# Altium footprint library PcbLib2.PcbLib: 22 footprints (part 1 of 2)
Each footprint in its own frame and in the unit in brackets; x right, y up, seen from the top. Pads: shape width x height; smd on the part's side, far side on the other; paste and mask are expansions set on the pad; w line width, h text height; cw(c..) or ccw(c..) is an arc to the next point about the centre after c.
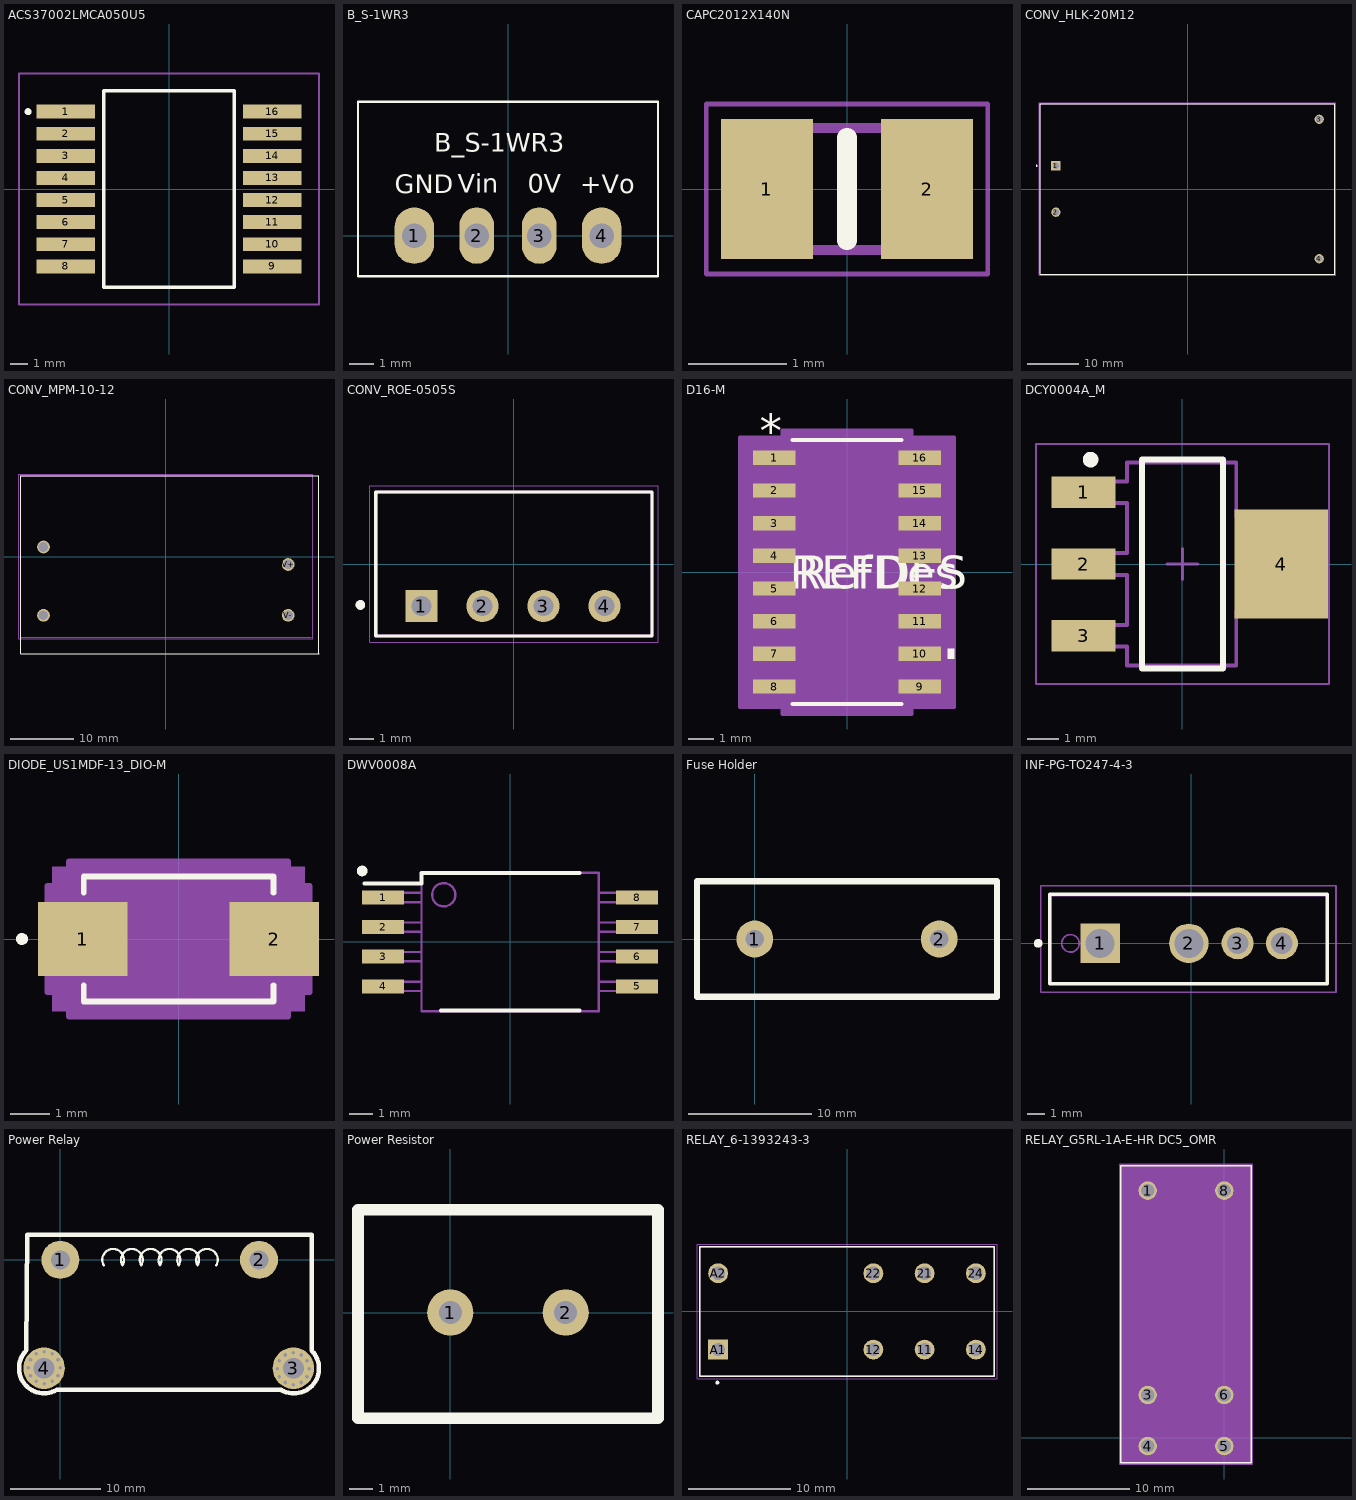
[diagram p0: the footprints below, top view; thin cyan lines are the x and y axes]

## ACS37002LMCA050U5 [mm]
pads (16):
  rect 3.36x0.8 smd: 1(-5.943,4.445) 2(-5.943,3.175) 3(-5.943,1.905) 4(-5.943,0.635) 5(-5.943,-0.635) 6(-5.943,-1.905) 7(-5.943,-3.175) 8(-5.943,-4.445) 9(5.943,-4.445) 10(5.943,-3.175) 11(5.943,-1.905) 12(5.943,-0.635) 13(5.943,0.635) 14(5.943,1.905) 15(5.943,3.175) 16(5.943,4.445)
Top Overlay:
  lines w0.2: -8.1,4.345 ccw(c-8.1,4.445) -8.1,4.545 ccw(c-8.1,4.445) -8.1,4.345 ; -3.76,-5.645 -3.76,5.645 3.76,5.645 3.76,-5.645 -3.76,-5.645
Mechanical 13:
  lines w0.1: -3.76,-5.645 -3.76,5.645 3.76,5.645 3.76,-5.645 -3.76,-5.645
Mechanical 15:
  lines w0.1: -8.623,-6.645 -8.623,6.645 8.623,6.645 8.623,-6.645 -8.623,-6.645
3D body "ACS37003KMCATR-050B5.stp": height 3.28, standoff 0, extent -6.5,-5.645 6.5,5.645

## B_S-1WR3 [mm]
pads (4):
  oval 1.6x2.3 hole 1: 1(-3.81,0) 4(3.81,0)
  oval 1.4x2.3 hole 1: 2(-1.27,0) 3(1.27,0)
Top Overlay:
  lines w0.1: -6.1,-1.662 -6.1,5.45 6.1,5.45 6.1,-1.662 -6.1,-1.662
  text "0V" at 0.808,1.734 h0.76
  text "+Vo" at 2.93,1.716 h0.76
  text "Vin" at -2.034,1.731 h0.76
  text "B_S-1WR3" at -3.006,3.418 h0.76
  text "GND" at -4.607,1.724 h0.76
Top Designator:
  text ".Designator" at -7.618,1.386 h1.52
3D body "B-S-1WR3.stp": height 10.2, standoff -4.06, extent -5.814,-0.885 5.786,5.115

## CAPC2012X140N [mm]
pads (2):
  rect 0.94x1.43 smd: 1(-0.82,0) 2(0.82,0)
Top Overlay:
  lines w0.2: 0,-0.525 0,0.525
Top Designator:
  text ".Designator" at -7.618,-0.508 h1.52
Mechanical 13:
  lines w0.1: -1,-0.625 -1,0.625 1,0.625 1,-0.625 -1,-0.625
Mechanical 15:
  lines w0.05: -1.44,-0.87 -1.44,0.87 1.44,0.87 1.44,-0.87 -1.44,-0.87
3D body "CL21A475KBQNNNE.stp": height 1.4, standoff 0, extent -1,-0.625 1,0.625

## CONV_HLK-20M12 [mm]
height 22.5
pads (4):
  rect 1.8x1.8 / inner round 1.8 / far side rect 1.8x1.8 hole 1.2: 1(-25.5,4.5)
  round 1.8 hole 1.2: 2(-25.5,-4.5) 3(25.5,13.5) 4(25.5,-13.5)
Top Overlay:
  circle w0.2: c-29.25,4.5 r0.1
  lines w0.127: -28.5,-16.5 28.5,-16.5 28.5,16.5 -28.5,16.5 -28.5,-16.5
Top Designator:
  text ".Designator" at -7.955,-0.508 h1.52
Mechanical 13:
  circle w0.2: c-29.25,4.5 r0.1
  lines w0.127: -28.5,-16.5 28.5,-16.5 28.5,16.5 -28.5,16.5 -28.5,-16.5
Mechanical 15:
  lines w0.05: -28.75,-16.75 28.75,-16.75 28.75,16.75 -28.75,16.75 -28.75,-16.75
3D body "step_temp.STEP": height 22.5, standoff -5, extent -28.5,-16.5 28.5,16.5

## CONV_MPM-10-12 [mm]
pads (4):
  round 2 hole 1.5: AC/L(-19.25,-9.25) AC/N(-19.25,1.5) V+(19.25,-1.25) V-(19.25,-9.25)
Top Overlay:
  lines w0.127: 24.05,-15.3 24.05,12.7 -22.85,12.7 -22.85,-15.3 24.1,-15.3
Top Designator:
  text ".Designator" at -7.098,-1.702 h1.52
Mechanical 13:
  lines w0.127: 22.85,-12.7 -22.85,-12.7 -22.85,12.7 22.85,12.7 ; 24.05,-12.7 24.05,12.7
Mechanical 15:
  lines w0.05: -23.1,-12.95 23.1,-12.95 23.1,12.95 -23.1,12.95 -23.1,-12.95
3D body "IRM-10 v3.step": height 21.5, standoff -3.5, extent -22.85,-12.827 22.85,12.573

## CONV_ROE-0505S [mm]
pads (4):
  rect 1.338x1.338 hole 0.83: 1(-3.85,-1.75)
  round 1.338 hole 0.83: 2(-1.31,-1.75) 3(1.23,-1.75) 4(3.77,-1.75)
Top Overlay:
  circle w0.2: c-6.39,-1.705 r0.1
  lines w0.127: -5.75,-3 -5.75,3 5.75,3 5.75,-3 -5.75,-3
Top Designator:
  text ".Designator" at -7.9,-0.508 h1.52
Mechanical 13:
  circle w0.2: c-6.39,-1.705 r0.1
  lines w0.127: -5.75,-3 -5.75,3 5.75,3 5.75,-3 -5.75,-3
Mechanical 15:
  lines w0.05: -6,-3.25 -6,3.25 6,3.25 6,-3.25 -6,-3.25
3D body "ROE-0505S--3DModel-STEP-1.STEP": height 9.5, standoff -4.6, extent -5.75,-3 5.75,3

## D16-M [mil]
pads (16):
  rect 65.5x22 smd paste+0 mask+0: 1(-111.25,175) 2(-111.25,125) 3(-111.25,75) 4(-111.25,25) 5(-111.25,-25) 6(-111.25,-75) 7(-111.25,-125) 8(-111.25,-175) 9(111.25,-175) 10(111.25,-125) 11(111.25,-75) 12(111.25,-25) 13(111.25,25) 14(111.25,75) 15(111.25,125) 16(111.25,175)
Top Overlay:
  region: 154,-117.5 164,-117.5 164,-132.5 154,-132.5
  lines w6: -83.5,-202 83.5,-202 ; -83.5,202 83.5,202
  text "REFDES" at -87.5,-25 h50
  text "*" at -133.75,192 h50
  text "RefDes" at -75,-25 h50
Mechanical 13:
  lines w0: -12,197 ccw(c0,197) 12,197
  lines w1: -122,-185 -122,-165 -78.5,-165 -78.5,-185 -122,-185 ; -122,-135 -122,-115 -78.5,-115 -78.5,-135 -122,-135 ; -122,-85 -122,-65 -78.5,-65 -78.5,-85 -122,-85 ; -122,-35 -122,-15 -78.5,-15 -78.5,-35 -122,-35 ; -122,15 -122,35 -78.5,35 -78.5,15 -122,15 ; -122,65 -122,85 -78.5,85 -78.5,65 -122,65 ; -122,115 -122,135 -78.5,135 -78.5,115 -122,115 ; -122,165 -122,185 -78.5,185 -78.5,165 -122,165 ; -78.5,-197 78.5,-197 78.5,197 -78.5,197 -78.5,-197 ; 78.5,-185 78.5,-165 122,-165 122,-185 78.5,-185 ; 78.5,-135 78.5,-115 122,-115 122,-135 78.5,-135 ; 78.5,-85 78.5,-65 122,-65 122,-85 78.5,-85 ; 78.5,-35 78.5,-15 122,-15 122,-35 78.5,-35 ; 78.5,15 78.5,35 122,35 122,15 78.5,15 ; 78.5,65 78.5,85 122,85 122,65 78.5,65 ; 78.5,115 78.5,135 122,135 122,115 78.5,115 ; 78.5,165 78.5,185 122,185 122,165 78.5,165
  text "*" at -76,144 h50
  text "RefDes2" at -87.5,-25 h50
Mechanical 15:
  region: -98.5,-206 -164,-206 -164,206 -98.5,206 -98.5,217 98.5,217 98.5,206 164,206 164,-206 98.5,-206 98.5,-217 -98.5,-217
  lines w6: -164,-206 -164,206 -98.5,206 -98.5,217 98.5,217 98.5,206 164,206 164,-206 98.5,-206 98.5,-217 -98.5,-217 -98.5,-206 -164,-206
3D body "D16.step": height 69.09, standoff 0, extent -122.01,-197.01 122.01,197.01

## DCY0004A_M [mm]
pads (4):
  rect 2.05x1 smd paste+0 mask+0.051: 1(-3.175,2.3) 2(-3.175,0) 3(-3.175,-2.3)
  rect 3x3.5 smd paste+0 mask+0.051: 4(3.175,0)
Top Overlay:
  circle w0.25: c-2.95,3.35 r0.125
  lines w0.2: -1.3,-3.35 -1.3,3.35 1.3,3.35 1.3,-3.35 -1.3,-3.35
Top Designator:
  text ".Designator" at -5.867,0.361 h1.52
Mechanical 3:
  text ".Designator" at -4.547,4.267 h1.27
Mechanical 13:
  lines w0.127: -3.525,-2.65 -2.797,-2.65 -2.612,-2.65 -2.374,-2.65 -2.003,-2.65 -1.775,-2.65 -1.775,-3.25 1.725,-3.25 1.725,-1.5 1.953,-1.5 2.324,-1.5 2.562,-1.5 2.747,-1.5 3.475,-1.5 3.475,1.5 2.747,1.5 2.562,1.5 2.324,1.5 1.953,1.5 1.725,1.5 1.725,3.25 -1.775,3.25 -1.775,2.65 -2.003,2.65 -2.374,2.65 -2.612,2.65 -2.797,2.65 -3.525,2.65 -3.525,1.95 -2.797,1.95 -2.612,1.95 -2.374,1.95 -2.003,1.95 -1.775,1.95 -1.775,0.35 -2.003,0.35 -2.374,0.35 -2.612,0.35 -2.797,0.35 -3.525,0.35 -3.525,-0.35 -2.797,-0.35 -2.612,-0.35 -2.374,-0.35 -2.003,-0.35 -1.775,-0.35 -1.775,-1.95 -2.003,-1.95 -2.374,-1.95 -2.612,-1.95 -2.797,-1.95 -3.525,-1.95 -3.525,-2.65
Mechanical 15:
  lines w0.05: -4.7,-3.85 4.7,-3.85 4.7,3.85 -4.7,3.85 -4.7,-3.85
  lines w0.1: -0.5,0 0.5,0 ; 0,-0.5 0,0.5
3D body "DCY0004A.stp": height 1.78, standoff 0.1, extent -3.5,-3.25 3.5,3.25

## DIODE_US1MDF-13_DIO-M [mil]
pads (2):
  rect 90x75 smd paste+0 mask+0: 1(-96.55,0) 2(96.55,0)
Top Overlay:
  circle w6: c-157.74,0 r3
  lines w6: -95.5,-46.6 -95.5,-63 95.5,-63 95.5,-46.6 ; -95.5,46.6 -95.5,63 95.5,63 95.5,46.6
Top Designator:
  text ".Designator" at -311,-19.99 h60
Mechanical 13:
  circle w0: c0,0 r3
  lines w1: -90.5,-58 -90.5,58 90.5,58 90.5,-58 -90.5,-58
Mechanical 15:
  region: -110.5,-53.5 -132.24,-53.5 -132.24,53.5 -110.5,53.5 -110.5,78 110.5,78 110.5,53.5 132.24,53.5 132.24,-53.5 110.5,-53.5 110.5,-78 -110.5,-78
  lines w6: -132.24,-53.5 -110.5,-53.5 -110.5,-78 110.5,-78 110.5,-53.5 132.24,-53.5 132.24,53.5 110.5,53.5 110.5,78 -110.5,78 -110.5,53.5 -132.24,53.5 -132.24,-53.5
Bottom Component Outline:
  region: 127.24,-73 -127.24,-73 -127.24,73 127.24,73
3D body "DIODE_US1MDF-13_DIO.step": height 43.11, standoff 0, extent -110.24,-57.99 110.24,57.99

## DWV0008A [mm]
pads (8):
  rect 1.8x0.6 smd paste+0 mask+0.051: 1(-5.45,1.905) 2(-5.45,0.635) 3(-5.45,-0.635) 4(-5.45,-1.905) 5(5.45,-1.905) 6(5.45,-0.635) 7(5.45,0.635) 8(5.45,1.905)
Top Overlay:
  circle w0.1: c-6.35,3.048 r0.043
  circle w0.1: c-6.35,3.048 r0.037
  circle w0.1: c-6.35,3.048 r0.125
  circle w0.1: c-6.35,3.048 r0.18
  lines w0.17: -6.25,2.5 -3.8,2.5 -3.8,2.95 2.975,2.95 ; -2.975,-2.95 2.975,-2.95
Top Designator:
  text ".Designator" at -6.854,0.476 h1.52
Mechanical 13:
  circle w0.1: c-2.85,2.025 r0.5
  lines w0.1: -3.805,-2.105 -5.8,-2.105 -5.8,-1.705 -3.805,-1.705 ; -3.805,-0.835 -5.8,-0.835 -5.8,-0.435 -3.805,-0.435 ; -3.805,0.435 -5.8,0.435 -5.8,0.835 -3.805,0.835 ; -3.805,1.705 -5.8,1.705 -5.8,2.105 -3.805,2.105 ; 3.805,-2.105 5.8,-2.105 5.8,-1.705 3.805,-1.705 ; 3.805,-0.835 5.8,-0.835 5.8,-0.435 3.805,-0.435 ; 3.805,0.435 5.8,0.435 5.8,0.835 3.805,0.835 ; 3.805,1.705 5.8,1.705 5.8,2.105 3.805,2.105 ; -3.8,-2.975 -3.8,2.975 3.8,2.975 3.8,-2.975 -3.8,-2.975
3D body "DWV0008A.stp": height 2.72, standoff 0.02, extent -5.768,-2.925 5.768,2.925

## Fuse Holder [mm] "5mm*20mm Fuse Holder"
height 11.5
pads (2):
  round 3 hole 1.5: 1(0,0) 2(15,0)
Top Overlay:
  lines w0.5: -4.7,-4.699 19.7,-4.699 19.7,4.699 -4.7,4.699 -4.7,-4.699
Top Designator:
  text ".Designator" at -0.118,-0.508 h1.52
3D body "4628--3DModel-STEP-630548.STEP": height 12.2, standoff -3.75, extent -4.628,-4.459 19.578,4.533
3D body "0218015.MXBP.STEP": height 11.65, standoff 6.35, extent -2.507,-2.633 17.493,2.667

## INF-PG-TO247-4-3 [mm] "TO-247-4, THT, 4 pin, 15.80 mm L X 5.00 mm W X 25.27 mm H body"
height 25.27
pads (4):
  rect 2.26x2.26 hole 1.66 paste-2539.97 mask+0: 1(-5.205,0)
  round 2.26 hole 1.66 paste-2539.97 mask+0: 2(-0.125,0)
  round 1.83 hole 1.23 paste-2539.97 mask+0: 3(2.665,0) 4(5.205,0)
Top Overlay:
  circle w0.25: c-8.75,0 r0.125
  lines w0.2: -8.1,-2.3 -8.1,2.8 7.8,2.8 7.8,-2.3 -8.1,-2.3
Top Designator:
  text ".Designator" at -7.943,-0.258 h1.52
Mechanical 3:
  text ".DESIGNATOR" at 0,0 h1.2
Mechanical 13:
  circle w0.1: c-6.9,0 r0.5
  lines w0.1: -8.025,-2.28 -8.025,2.72 7.775,2.72 7.775,-2.28 -8.025,-2.28
Mechanical 15:
  lines w0.1: -0.5,0 0.5,0 ; 0,-0.5 0,0.5 ; -8.6,-2.8 -8.6,3.3 8.3,3.3 8.3,-2.8 -8.6,-2.8
3D body "ohmite_WA-T247-101E.stp": height 35.81, standoff 0.25, extent -11.836,-0.762 11.532,15.24
3D body "PG-TO247-4-3_Z8B00184781_V04_3D.stp": height 25.27, standoff -15.93, extent -8.025,-2.295 7.775,2.715

## Power Relay [mm] "AC Input Power Relay Non-Latching"
height 23.3
pads (4):
  round 4.2 hole 2.1: 1(0,0) 2(22,0)
  round 4.6 hole 2.3: 3(25.8,-12) 4(-1.8,-12)
via -1.778,-13.716 diameter 0.8 hole 0.4
via -0.889,-13.462 diameter 0.8 hole 0.4
via -0.254,-12.827 diameter 0.8 hole 0.4
via 0,-11.938 diameter 0.8 hole 0.4
via -0.254,-11.049 diameter 0.8 hole 0.4
via -0.889,-10.414 diameter 0.8 hole 0.4
via -1.778,-10.16 diameter 0.8 hole 0.4
via -3.556,-11.938 diameter 0.8 hole 0.4
via -2.667,-10.414 diameter 0.8 hole 0.4
via -3.302,-11.049 diameter 0.8 hole 0.4
via -2.667,-13.462 diameter 0.8 hole 0.4
via -3.302,-12.827 diameter 0.8 hole 0.4
via 24.257,-12.954 diameter 0.8 hole 0.4
via 24.892,-13.589 diameter 0.8 hole 0.4
via 24.257,-11.176 diameter 0.8 hole 0.4
via 24.892,-10.541 diameter 0.8 hole 0.4
via 24.003,-12.065 diameter 0.8 hole 0.4
via 25.781,-10.287 diameter 0.8 hole 0.4
via 26.67,-10.541 diameter 0.8 hole 0.4
via 27.305,-11.176 diameter 0.8 hole 0.4
via 27.559,-12.065 diameter 0.8 hole 0.4
via 27.305,-12.954 diameter 0.8 hole 0.4
via 26.67,-13.589 diameter 0.8 hole 0.4
via 25.781,-13.843 diameter 0.8 hole 0.4
Top Overlay:
  lines w0.254: 4.803,-0.6 cw(c5.842,0) 6.881,-0.6 cw(c7.92,0) 8.96,-0.6 cw(c9.999,0) 11.038,-0.6 cw(c12.077,0) 13.117,-0.6 cw(c14.156,0) 15.195,-0.6 cw(c16.234,0) 17.274,-0.6
  lines w0.5: 24.453,-14.403 -0.413,-14.403 cw(c-1.8,-12) -3.762,-10.038 -3.683,2.794 27.824,2.794 27.824,-10.06 cw(c25.862,-12.022) 24.475,-14.425
Top Designator:
  text ".Designator" at 4.413,-6.509 h1.52
3D body "alfg1pf09.step": height 23.3, standoff -4, extent -3.049,-13.795 27.051,1.905

## Power Resistor [mm] "5W 1kOhm Precharge Resistor"
height 25
pads (2):
  round 2 hole 1: 1(0,0) 2(5,0)
Top Overlay:
  lines w0.5: -4,-4.572 9,-4.572 9,4.445 -4,4.445 -4,-4.572
Top Designator:
  text ".Designator" at -5.118,-0.571 h1.52
3D body: height 25, standoff 0.5, extent -4.064,-4.572 9.017,4.445

## RELAY_6-1393243-3 [mm]
pads (8):
  round 1.95 hole 1.3 mask+0.102: 11(7.63,-3.75) 12(2.59,-3.75) 14(12.67,-3.75) 21(7.63,3.75) 22(2.59,3.75) 24(12.67,3.75) A2(-12.67,3.75)
  rect 1.95x1.95 / inner round 1.95 / far side rect 1.95x1.95 hole 1.3 mask+0.102: A1(-12.67,-3.75)
Top Overlay:
  circle w0.2: c-12.75,-7 r0.1
  lines w0.127: -14.5,-6.35 14.5,-6.35 14.5,6.35 -14.5,6.35 -14.5,-6.35
Top Designator:
  text ".Designator" at -7.734,-0.795 h1.52
Mechanical 13:
  lines w0.127: -14.5,-6.35 14.5,-6.35 14.5,6.35 -14.5,6.35 -14.5,-6.35
Mechanical 15:
  lines w0.05: -14.75,-6.6 14.75,-6.6 14.75,6.6 -14.75,6.6 -14.75,-6.6
3D body "step_temp.STEP": height 15.7, standoff -3.6, extent -15.008,-6.35 13.992,6.35

## RELAY_G5RL-1A-E-HR DC5_OMR [mil]
pads (6):
  round 71 / inner round 60 / far side round 71 hole 51 paste-99999 mask+0: 1(-295.28,952.76) 3(-295.28,165.35) 4(-295.28,-31.5) 5(0,-31.5) 6(0,165.35) 8(0,952.76)
Top Overlay:
  lines w6: -398.7,-95.55 103.43,-95.55 103.43,1048.31 -398.7,1048.31 -398.7,-95.55
Top Designator:
  text ".Designator" at -381.76,507.87 h60
Mechanical 13:
  lines w0: -159.64,1043.31 ccw(c-147.64,1043.31) -135.64,1043.31
  lines w1: -393.7,-90.55 98.43,-90.55 98.43,1043.31 -393.7,1043.31 -393.7,-90.55
  text "*" at -307.78,1033.99 h50
Mechanical 15:
  region: 108.43,-100.55 -403.7,-100.55 -403.7,1053.31 108.43,1053.31
  region: 98.43,-90.55 -393.7,-90.55 -393.7,1043.31 98.43,1043.31
  lines w6: -403.7,-100.55 -403.7,1053.31 108.43,1053.31 108.43,-100.55 -403.7,-100.55
3D body "G5RL_1A_E_HR.step": height 618.11, standoff -137.8, extent -397.64,-94.49 102.36,1047.24